# EAGLE library part CY7C1059DV33-10ZSXIT (library SamacSys_Parts)
SRAM 8MB (1Mx8) 3.3v 10ns Fast Async SRAM Source: Datasheet <https://componentsearchengine.com/Datasheets/1/CY7C1059DV33-10ZSXIT.pdf>
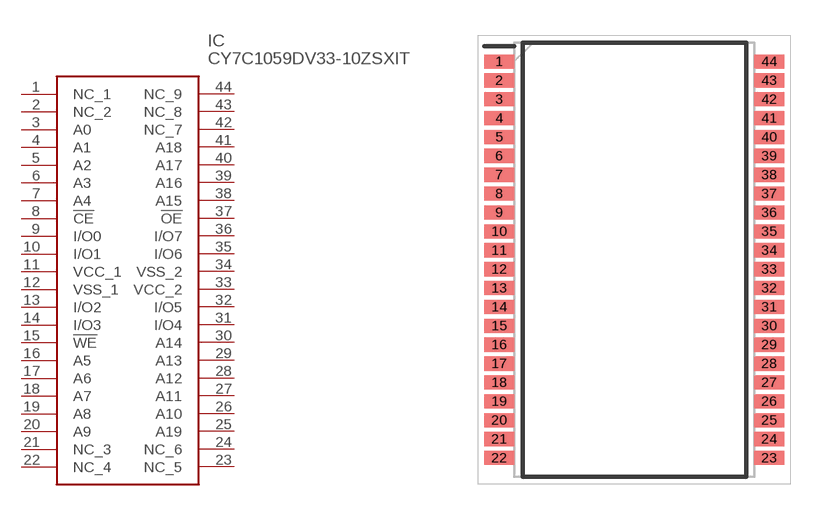
[diagram p13: symbol with the pads of SOP80P1184X119-44N; footprint SOP80P1184X119-44N]

Designator prefix IC

## CY7C1059DV33-10ZSXIT (Arrow_Part_Number: CY7C1059DV33-10ZSXIT; Arrow_Price-Stock: https://www.arrow.com/en/products/cy7c1059dv33-10zsxit/cypress-semiconductor?region=nac; Description: SRAM 8MB (1Mx8) 3.3v 10ns Fast Async SRAM; Height: 1.194mm; Manufacturer_Name: Cypress Semiconductor; Manufacturer_Part_Number: CY7C1059DV33-10ZSXIT; Mouser_Part_Number: 727-C1059DV3310ZSXIT; Mouser_Price-Stock: https://www.mouser.co.uk/ProductDetail/Cypress-Semiconductor/CY7C1059DV33-10ZSXIT?qs=k2piNBSag38I1iaL2AXkLQ%3D%3D)  [SOP80P1184X119-44N]
1  NC_1
2  NC_2
3  A0
4  A1
5  A2
6  A3
7  A4
8  !CE
9  I/O0
10  I/O1
11  VCC_1
12  VSS_1
13  I/O2
14  I/O3
15  !WE
16  A5
17  A6
18  A7
19  A8
20  A9
21  NC_3
22  NC_4
23  NC_5
24  NC_6
25  A19
26  A10
27  A11
28  A12
29  A13
30  A14
31  I/O4
32  I/O5
33  VCC_2
34  VSS_2
35  I/O6
36  I/O7
37  !OE
38  A15
39  A16
40  A17
41  A18
42  NC_7
43  NC_8
44  NC_9

## Footprint SOP80P1184X119-44N (pad centres in mm)
44-Pin TSOP II (51-85087)
smd 1.27 x 0.6: 1 -5.715,8.4; 2 -5.715,7.6; 3 -5.715,6.8; 4 -5.715,6; 5 -5.715,5.2; 6 -5.715,4.4; 7 -5.715,3.6; 8 -5.715,2.8; 9 -5.715,2; 10 -5.715,1.2; 11 -5.715,0.4; 12 -5.715,-0.4; 13 -5.715,-1.2; 14 -5.715,-2; 15 -5.715,-2.8; 16 -5.715,-3.6; 17 -5.715,-4.4; 18 -5.715,-5.2; 19 -5.715,-6; 20 -5.715,-6.8; 21 -5.715,-7.6; 22 -5.715,-8.4; 23 5.715,-8.4; 24 5.715,-7.6; 25 5.715,-6.8; 26 5.715,-6; 27 5.715,-5.2; 28 5.715,-4.4; 29 5.715,-3.6; 30 5.715,-2.8; 31 5.715,-2; 32 5.715,-1.2; 33 5.715,-0.4; 34 5.715,0.4; 35 5.715,1.2; 36 5.715,2; 37 5.715,2.8; 38 5.715,3.6; 39 5.715,4.4; 40 5.715,5.2; 41 5.715,6; 42 5.715,6.8; 43 5.715,7.6; 44 5.715,8.4